# Altium integrated library ZMDI Smart Power Management.IntLib: 9 symbols
Pins are listed as number, name and electrical type; pins without a type are passive.

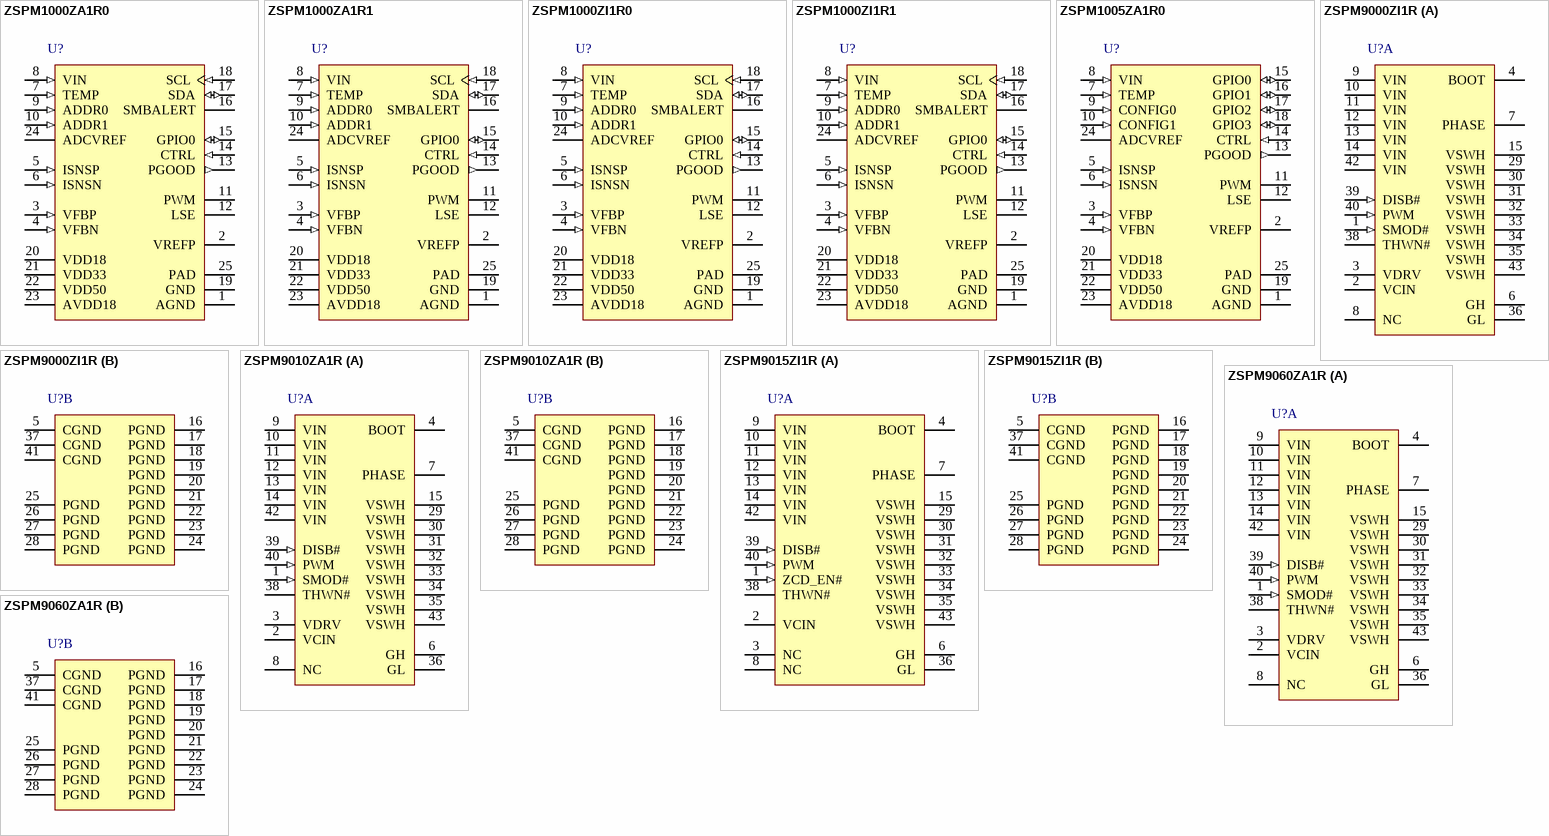
[diagram p0: symbols ZSPM1000ZA1R0 to ZSPM9060ZA1R]

## ZSPM1000ZA1R0
designator U?
True Digital PWM Controller (Single-Phase, Single-Rail), -40 to 125 degC, 24-Pin QFN, Reel, RoHS; Manufacturer: ZMDI; PartNumber: ZSPM1000ZA1R0; Output Current: 2 mA; Output Voltage Slew Rate: 0.15 V/us; DatasheetVersion: Rev. 1.41; PackageReference: QFN24; PackageDescription: 24-Pin Plastic Quad Flatpack, No Leads, 4 x 4 mm Body, 0.5 mm Pitch, 2.6 x 2.6 mm Exposed Pad; Package: QFN24; Packing: Reel; RoHS: TRUE; Mounting Technology: Surface Mount; Code_JEDEC: MO-220; ComponentLink1Description: Manufacturer URL; ComponentLink1URL: http://www.zmdi.com/; ComponentLink2Description: Datasheet; ComponentLink2URL: http://www.zmdi.com/sites/default/files/ZSPM1000_Brief_Data_Sheet_rev_1_41_2013-04-24.pdf; ComponentLink3Description: Package Specification; ComponentLink3URL: http://www.zmdi.com/sites/default/files/ZIOL2xxx-Data_Sheet_Rev2.2.1_0.pdf
footprint ZMDI-QFN24_N (QFN, 24-Leads, Body 4.1x4.1mm, Pitch 0.5mm, Thermal Pad 2.6x2.6mm, IPC Medium Density)
footprint ZMDI-QFN24_L (QFN, 24-Leads, Body 4.1x4.1mm, Pitch 0.5mm, Thermal Pad 2.6x2.6mm, IPC High Density)
footprint ZMDI-QFN24_M (QFN, 24-Leads, Body 4.1x4.1mm, Pitch 0.5mm, Thermal Pad 2.6x2.6mm, IPC Low Density)
pins: 1 AGND (power) "Analog Ground", 2 VREFP "Reference Terminal", 3 VFBP (in) "Positive Input of Differential Feedback Voltage Sensing", 4 VFBN (in) "Negative Input of Differential Feedback Voltage Sensing", 5 ISNSP (in) "Positive Input of Differential Current Sensing", 6 ISNSN (in) "Negative Input of Differential Current Sensing", 7 TEMP (in) "Connection to External Temperature Sensing Element", 8 VIN (in) "Power Supply Input Voltage Sensing", 9 ADDR0 (in) "SMBus Address Selection 0", 10 ADDR1 (in) "SMBus Address Selection 1", 11 PWM (hiz) "High-side FET Control Signal", 12 LSE (hiz) "Low-side FET Control Signal", 13 PGOOD (out) "PGOOD Output (Internal Pull-Down)", 14 CTRL (in) "Control Input", 15 GPIO0 (io) "General Purpose Input/Output Pin", 16 SMBALERT (oc) "SMBus Alert Output", 17 SDA (io) "SMBus Shift Data I/O", 18 SCL (in) "SMBus Shift Clock Input (Slave-only)", 19 GND (power) "Digital Ground", 20 VDD18 (power) "Internal 1.8 V Digital Supply Terminal", 21 VDD33 (power) "3.3 V Supply Voltage Terminal", 22 VDD50 (power) "5.0 V Supply Voltage Terminal", 23 AVDD18 (power) "Internal 1.8 V Analog Supply Terminal", 24 ADCVREF "Analog-to-Digital Converter (ADC) Reference Terminal", 25 PAD (power) "Exposed PAD, Digital Ground"

## ZSPM1000ZA1R1
designator U?
True Digital PWM Controller (Single-Phase, Single-Rail), -40 to 125 degC, 24-Pin QFN, Reel, RoHS; Manufacturer: ZMDI; PartNumber: ZSPM1000ZA1R1; Output Current: 2 mA; Output Voltage Slew Rate: 0.15 V/us; DatasheetVersion: Rev. 1.41; PackageReference: QFN24; PackageDescription: 24-Pin Plastic Quad Flatpack, No Leads, 4 x 4 mm Body, 0.5 mm Pitch, 2.6 x 2.6 mm Exposed Pad; Package: QFN24; Packing: Reel; RoHS: TRUE; Mounting Technology: Surface Mount; Code_JEDEC: MO-220; ComponentLink1Description: Manufacturer URL; ComponentLink1URL: http://www.zmdi.com/; ComponentLink2Description: Datasheet; ComponentLink2URL: http://www.zmdi.com/sites/default/files/ZSPM1000_Brief_Data_Sheet_rev_1_41_2013-04-24.pdf; ComponentLink3Description: Package Specification; ComponentLink3URL: http://www.zmdi.com/sites/default/files/ZIOL2xxx-Data_Sheet_Rev2.2.1_0.pdf
footprint ZMDI-QFN24_N (QFN, 24-Leads, Body 4.1x4.1mm, Pitch 0.5mm, Thermal Pad 2.6x2.6mm, IPC Medium Density)
footprint ZMDI-QFN24_L (QFN, 24-Leads, Body 4.1x4.1mm, Pitch 0.5mm, Thermal Pad 2.6x2.6mm, IPC High Density)
footprint ZMDI-QFN24_M (QFN, 24-Leads, Body 4.1x4.1mm, Pitch 0.5mm, Thermal Pad 2.6x2.6mm, IPC Low Density)
pins: 1 AGND (power) "Analog Ground", 2 VREFP "Reference Terminal", 3 VFBP (in) "Positive Input of Differential Feedback Voltage Sensing", 4 VFBN (in) "Negative Input of Differential Feedback Voltage Sensing", 5 ISNSP (in) "Positive Input of Differential Current Sensing", 6 ISNSN (in) "Negative Input of Differential Current Sensing", 7 TEMP (in) "Connection to External Temperature Sensing Element", 8 VIN (in) "Power Supply Input Voltage Sensing", 9 ADDR0 (in) "SMBus Address Selection 0", 10 ADDR1 (in) "SMBus Address Selection 1", 11 PWM (hiz) "High-side FET Control Signal", 12 LSE (hiz) "Low-side FET Control Signal", 13 PGOOD (out) "PGOOD Output (Internal Pull-Down)", 14 CTRL (in) "Control Input", 15 GPIO0 (io) "General Purpose Input/Output Pin", 16 SMBALERT (oc) "SMBus Alert Output", 17 SDA (io) "SMBus Shift Data I/O", 18 SCL (in) "SMBus Shift Clock Input (Slave-only)", 19 GND (power) "Digital Ground", 20 VDD18 (power) "Internal 1.8 V Digital Supply Terminal", 21 VDD33 (power) "3.3 V Supply Voltage Terminal", 22 VDD50 (power) "5.0 V Supply Voltage Terminal", 23 AVDD18 (power) "Internal 1.8 V Analog Supply Terminal", 24 ADCVREF "Analog-to-Digital Converter (ADC) Reference Terminal", 25 PAD (power) "Exposed PAD, Digital Ground"

## ZSPM1000ZI1R0
designator U?
True Digital PWM Controller (Single-Phase, Single-Rail), -40 to 85 degC, 24-Pin QFN, Reel, RoHS; Manufacturer: ZMDI; PartNumber: ZSPM1000ZI1R0; Output Current: 2 mA; Output Voltage Slew Rate: 0.15 V/us; DatasheetVersion: Rev. 1.41; PackageReference: QFN24; PackageDescription: 24-Pin Plastic Quad Flatpack, No Leads, 4 x 4 mm Body, 0.5 mm Pitch, 2.6 x 2.6 mm Exposed Pad; Package: QFN24; Packing: Reel; RoHS: TRUE; Mounting Technology: Surface Mount; Code_JEDEC: MO-220; ComponentLink1Description: Manufacturer URL; ComponentLink1URL: http://www.zmdi.com/; ComponentLink2Description: Datasheet; ComponentLink2URL: http://www.zmdi.com/sites/default/files/ZSPM1000_Brief_Data_Sheet_rev_1_41_2013-04-24.pdf; ComponentLink3Description: Package Specification; ComponentLink3URL: http://www.zmdi.com/sites/default/files/ZIOL2xxx-Data_Sheet_Rev2.2.1_0.pdf
footprint ZMDI-QFN24_N (QFN, 24-Leads, Body 4.1x4.1mm, Pitch 0.5mm, Thermal Pad 2.6x2.6mm, IPC Medium Density)
footprint ZMDI-QFN24_L (QFN, 24-Leads, Body 4.1x4.1mm, Pitch 0.5mm, Thermal Pad 2.6x2.6mm, IPC High Density)
footprint ZMDI-QFN24_M (QFN, 24-Leads, Body 4.1x4.1mm, Pitch 0.5mm, Thermal Pad 2.6x2.6mm, IPC Low Density)
pins: 1 AGND (power) "Analog Ground", 2 VREFP "Reference Terminal", 3 VFBP (in) "Positive Input of Differential Feedback Voltage Sensing", 4 VFBN (in) "Negative Input of Differential Feedback Voltage Sensing", 5 ISNSP (in) "Positive Input of Differential Current Sensing", 6 ISNSN (in) "Negative Input of Differential Current Sensing", 7 TEMP (in) "Connection to External Temperature Sensing Element", 8 VIN (in) "Power Supply Input Voltage Sensing", 9 ADDR0 (in) "SMBus Address Selection 0", 10 ADDR1 (in) "SMBus Address Selection 1", 11 PWM (hiz) "High-side FET Control Signal", 12 LSE (hiz) "Low-side FET Control Signal", 13 PGOOD (out) "PGOOD Output (Internal Pull-Down)", 14 CTRL (in) "Control Input", 15 GPIO0 (io) "General Purpose Input/Output Pin", 16 SMBALERT (oc) "SMBus Alert Output", 17 SDA (io) "SMBus Shift Data I/O", 18 SCL (in) "SMBus Shift Clock Input (Slave-only)", 19 GND (power) "Digital Ground", 20 VDD18 (power) "Internal 1.8 V Digital Supply Terminal", 21 VDD33 (power) "3.3 V Supply Voltage Terminal", 22 VDD50 (power) "5.0 V Supply Voltage Terminal", 23 AVDD18 (power) "Internal 1.8 V Analog Supply Terminal", 24 ADCVREF "Analog-to-Digital Converter (ADC) Reference Terminal", 25 PAD (power) "Exposed PAD, Digital Ground"

## ZSPM1000ZI1R1
designator U?
True Digital PWM Controller (Single-Phase, Single-Rail), -40 to 85 degC, 24-Pin QFN, Reel, RoHS; Manufacturer: ZMDI; PartNumber: ZSPM1000ZI1R1; Output Current: 2 mA; Output Voltage Slew Rate: 0.15 V/us; DatasheetVersion: Rev. 1.41; PackageReference: QFN24; PackageDescription: 24-Pin Plastic Quad Flatpack, No Leads, 4 x 4 mm Body, 0.5 mm Pitch, 2.6 x 2.6 mm Exposed Pad; Package: QFN24; Packing: Reel; RoHS: TRUE; Mounting Technology: Surface Mount; Code_JEDEC: MO-220; ComponentLink1Description: Manufacturer URL; ComponentLink1URL: http://www.zmdi.com/; ComponentLink2Description: Datasheet; ComponentLink2URL: http://www.zmdi.com/sites/default/files/ZSPM1000_Brief_Data_Sheet_rev_1_41_2013-04-24.pdf; ComponentLink3Description: Package Specification; ComponentLink3URL: http://www.zmdi.com/sites/default/files/ZIOL2xxx-Data_Sheet_Rev2.2.1_0.pdf
footprint ZMDI-QFN24_N (QFN, 24-Leads, Body 4.1x4.1mm, Pitch 0.5mm, Thermal Pad 2.6x2.6mm, IPC Medium Density)
footprint ZMDI-QFN24_L (QFN, 24-Leads, Body 4.1x4.1mm, Pitch 0.5mm, Thermal Pad 2.6x2.6mm, IPC High Density)
footprint ZMDI-QFN24_M (QFN, 24-Leads, Body 4.1x4.1mm, Pitch 0.5mm, Thermal Pad 2.6x2.6mm, IPC Low Density)
pins: 1 AGND (power) "Analog Ground", 2 VREFP "Reference Terminal", 3 VFBP (in) "Positive Input of Differential Feedback Voltage Sensing", 4 VFBN (in) "Negative Input of Differential Feedback Voltage Sensing", 5 ISNSP (in) "Positive Input of Differential Current Sensing", 6 ISNSN (in) "Negative Input of Differential Current Sensing", 7 TEMP (in) "Connection to External Temperature Sensing Element", 8 VIN (in) "Power Supply Input Voltage Sensing", 9 ADDR0 (in) "SMBus Address Selection 0", 10 ADDR1 (in) "SMBus Address Selection 1", 11 PWM (hiz) "High-side FET Control Signal", 12 LSE (hiz) "Low-side FET Control Signal", 13 PGOOD (out) "PGOOD Output (Internal Pull-Down)", 14 CTRL (in) "Control Input", 15 GPIO0 (io) "General Purpose Input/Output Pin", 16 SMBALERT (oc) "SMBus Alert Output", 17 SDA (io) "SMBus Shift Data I/O", 18 SCL (in) "SMBus Shift Clock Input (Slave-only)", 19 GND (power) "Digital Ground", 20 VDD18 (power) "Internal 1.8 V Digital Supply Terminal", 21 VDD33 (power) "3.3 V Supply Voltage Terminal", 22 VDD50 (power) "5.0 V Supply Voltage Terminal", 23 AVDD18 (power) "Internal 1.8 V Analog Supply Terminal", 24 ADCVREF "Analog-to-Digital Converter (ADC) Reference Terminal", 25 PAD (power) "Exposed PAD, Digital Ground"

## ZSPM1005ZA1R0
designator U?
True Digital PWM Controller (Single-Phase, Single-Rail), -40 to 125 degC, 24-Pin QFN, Reel, RoHS; Manufacturer: ZMDI; PartNumber: ZSPM1005ZA1R0; Output Current: 2 mA; Output Voltage Slew Rate: 0.15 V/us; DatasheetVersion: Rev. 1.00; PackageReference: QFN24; PackageDescription: 24-Pin Plastic Quad Flatpack, No Leads, 4 x 4 mm Body, 0.5 mm Pitch, 2.6 x 2.6 mm Exposed Pad; Supplier 1: Mouser; Supplier Part Number 1: 964-ZSPM1005ZA1R0; Package: QFN24; Packing: Reel; RoHS: TRUE; Mounting Technology: Surface Mount; Code_JEDEC: MO-220; ComponentLink1Description: Manufacturer URL; ComponentLink1URL: http://www.zmdi.com/; ComponentLink2Description: Datasheet; ComponentLink2URL: http://zmdi.cdistore.com/datasheets/zmdi/ZSPM1005_Brief_Data_Sheet_rev_1_00_2013-06-21.pdf; ComponentLink3Description: Package Specification; ComponentLink3URL: http://www.zmdi.com/sites/default/files/ZIOL2xxx-Data_Sheet_Rev2.2.1_0.pdf
footprint ZMDI-QFN24_N (QFN, 24-Leads, Body 4.1x4.1mm, Pitch 0.5mm, Thermal Pad 2.6x2.6mm, IPC Medium Density)
footprint ZMDI-QFN24_L (QFN, 24-Leads, Body 4.1x4.1mm, Pitch 0.5mm, Thermal Pad 2.6x2.6mm, IPC High Density)
footprint ZMDI-QFN24_M (QFN, 24-Leads, Body 4.1x4.1mm, Pitch 0.5mm, Thermal Pad 2.6x2.6mm, IPC Low Density)
pins: 1 AGND (power) "Analog Ground", 2 VREFP "Reference Terminal", 3 VFBP (in) "Positive Input of Differential Feedback Voltage Sensing", 4 VFBN (in) "Negative Input of Differential Feedback Voltage Sensing", 5 ISNSP (in) "Positive Input of Differential Current Sensing", 6 ISNSN (in) "Negative Input of Differential Current Sensing", 7 TEMP (in) "Connection to External Temperature Sensing Element", 8 VIN (in) "Power Supply Input Voltage Sensing", 9 CONFIG0 (in) "Configuration selection 0", 10 CONFIG1 (in) "Configuration selection 1", 11 PWM (hiz) "High-side FET Control Signal", 12 LSE (hiz) "Low-side FET Control Signal", 13 PGOOD (out) "PGOOD Output (Internal Pull-Down)", 14 CTRL (in) "Control Input", 15 GPIO0 (io) "General Purpose Input/Output Pin", 16 GPIO1 (io) "General Purpose Input/Output Pin", 17 GPIO2 (io) "General Purpose Input/Output Pin", 18 GPIO3 (io) "General Purpose Input/Output Pin", 19 GND (power) "Digital Ground", 20 VDD18 (power) "Internal 1.8 V Digital Supply Terminal", 21 VDD33 (power) "3.3 V Supply Voltage Terminal", 22 VDD50 (power) "5.0 V Supply Voltage Terminal", 23 AVDD18 (power) "Internal 1.8 V Analog Supply Terminal", 24 ADCVREF "Analog-to-Digital Converter (ADC) Reference Terminal", 25 PAD (power) "Exposed PAD, Digital Ground"

## ZSPM9000ZI1R
designator U?
Ultra-Compact, High-Performance DrMOS Device, -40 to 125 degC, 40-Pin PQFN, Reel, RoHS; Manufacturer: ZMDI; PartNumber: ZSPM9000ZI1R; DatasheetVersion: Rev. 1.03; PackageReference: PQFN40; PackageDescription: 40-Pin Plastic Quad Flatpack, No Leads, 6 x 6 mm Body, 0.5 mm Pitch; Package: PQFN40; Packing: Reel; RoHS: TRUE; Mounting Technology: Surface Mount; ComponentLink1Description: Manufacturer URL; ComponentLink1URL: http://www.zmdi.com/; ComponentLink2Description: Datasheet; ComponentLink2URL: http://zmdi.com/sites/default/files/ZSPM9000_Data_Sheet_rev1_03_2013-03-08.pdf; ComponentLink3Description: Package Specification; ComponentLink3URL: http://zmdi.com/sites/default/files/ZSPM9000_Data_Sheet_rev1_03_2013-03-08.pdf
footprint ZMDI-PQFN40_V (PQFN, 40-Leads, Body 6x6mm, Pitch 0.5mm)
part A pins: 1 SMOD# (in) "When SMOD#=HIGH, the low-side driver is the inverse of PWM input. When SMOD#=LOW, the low-side driver is disabled. This pin has a 10uA internal pull-up current source. Do not add a noise filter capacitor.", 2 VCIN (power), 3 VDRV (power), 4 BOOT "Bootstrap supply input. Provides voltage supply to the high-side MOSFET driver. Connect a bootstrap capacitor from this pin to PHASE.", 6 GH "Gate high. For manufacturing test only. This pin must float: it must not be connected.", 7 PHASE "Switch node pin for bootstrap capacitor routing; electrically shorted to VSWH pin.", 8 NC "No connection. The pin is not electrically connected internally but can be connected to VIN for convenience.", 9 VIN (power) "Input power voltage (output stage supply voltage).", 10 VIN (power) "Input power voltage (output stage supply voltage).", 11 VIN (power) "Input power voltage (output stage supply voltage).", 12 VIN (power) "Input power voltage (output stage supply voltage).", 13 VIN (power) "Input power voltage (output stage supply voltage).", 14 VIN (power) "Input power voltage (output stage supply voltage).", 15 VSWH (power) "Switch node. Provides return for high-side bootstrapped driver and acts as a sense point for the adaptive shoot-through protection.", 29 VSWH (power) "Switch node. Provides return for high-side bootstrapped driver and acts as a sense point for the adaptive shoot-through protection.", 30 VSWH (power) "Switch node. Provides return for high-side bootstrapped driver and acts as a sense point for the adaptive shoot-through protection.", 31 VSWH (power) "Switch node. Provides return for high-side bootstrapped driver and acts as a sense point for the adaptive shoot-through protection.", 32 VSWH (power) "Switch node. Provides return for high-side bootstrapped driver and acts as a sense point for the adaptive shoot-through protection.", 33 VSWH (power) "Switch node. Provides return for high-side bootstrapped driver and acts as a sense point for the adaptive shoot-through protection.", 34 VSWH (power) "Switch node. Provides return for high-side bootstrapped driver and acts as a sense point for the adaptive shoot-through protection.", 35 VSWH (power) "Switch node. Provides return for high-side bootstrapped driver and acts as a sense point for the adaptive shoot-through protection.", 36 GL "Gate low. For manufacturing test only. This pin must float. It must not be connected.", 38 THWN# (hiz) "Thermal warning flag, open collector output. When temperature exceeds the trip limit, the output is pulled LOW. THWN# does not disable the module.", 39 DISB# (in), 40 PWM (in) "PWM signal input. This pin accepts a tri-state 3.3V PWM signal from the controller.", 42 VIN (power) "Input power voltage (output stage supply voltage).", 43 VSWH (power) "Switch node. Provides return for high-side bootstrapped driver and acts as a sense point for the adaptive shoot-through protection."
part B pins: 5 CGND (power), 16 PGND (power) "Power ground (output stage ground). Source pin of the low-side MOSFET.", 17 PGND (power) "Power ground (output stage ground). Source pin of the low-side MOSFET.", 18 PGND (power) "Power ground (output stage ground). Source pin of the low-side MOSFET.", 19 PGND (power) "Power ground (output stage ground). Source pin of the low-side MOSFET.", 20 PGND (power) "Power ground (output stage ground). Source pin of the low-side MOSFET.", 21 PGND (power) "Power ground (output stage ground). Source pin of the low-side MOSFET.", 22 PGND (power) "Power ground (output stage ground). Source pin of the low-side MOSFET.", 23 PGND (power) "Power ground (output stage ground). Source pin of the low-side MOSFET.", 24 PGND (power) "Power ground (output stage ground). Source pin of the low-side MOSFET.", 25 PGND (power) "Power ground (output stage ground). Source pin of the low-side MOSFET.", 26 PGND (power) "Power ground (output stage ground). Source pin of the low-side MOSFET.", 27 PGND (power) "Power ground (output stage ground). Source pin of the low-side MOSFET.", 28 PGND (power) "Power ground (output stage ground). Source pin of the low-side MOSFET.", 37 CGND (power), 41 CGND (power)

## ZSPM9010ZA1R
designator U?
Ultra-Compact, High-Performance DrMOS Device, -40 to 125 degC, 40-Pin PQFN, Reel, RoHS; Manufacturer: ZMDI; PartNumber: ZSPM9010ZA1R; DatasheetVersion: Rev. 1.04; PackageReference: PQFN40; PackageDescription: 40-Pin Plastic Quad Flatpack, No Leads, 6 x 6 mm Body, 0.5 mm Pitch; Supplier 1: Farnell; Supplier Part Number 1: 2115225; Supplier 2: Newark; Supplier Part Number 2: 05W5935; Supplier 3: Mouser; Supplier Part Number 3: 964-ZSPM9010ZA1R; Package: PQFN40; Packing: Reel; RoHS: TRUE; Mounting Technology: Surface Mount; ComponentLink1Description: Manufacturer URL; ComponentLink1URL: http://www.zmdi.com/; ComponentLink2Description: Datasheet; ComponentLink2URL: http://zmdi.cdistore.com/datasheets/zmdi/ZSPM9010-Data_Sheet_rev_1_04_2013-03-08.pdf; ComponentLink3Description: Package Specification; ComponentLink3URL: http://zmdi.com/sites/default/files/ZSPM9000_Data_Sheet_rev1_03_2013-03-08.pdf
footprint ZMDI-PQFN40_V (PQFN, 40-Leads, Body 6x6mm, Pitch 0.5mm)
part A pins: 1 SMOD# (in) "When SMOD#=HIGH, the low-side driver is the inverse of PWM input. When SMOD#=LOW, the low-side driver is disabled. This pin has a 10uA internal pull-up current source. Do not add a noise filter capacitor.", 2 VCIN (power), 3 VDRV (power), 4 BOOT "Bootstrap supply input. Provides voltage supply to the high-side MOSFET driver. Connect a bootstrap capacitor from this pin to PHASE.", 6 GH "Gate high. For manufacturing test only. This pin must float: it must not be connected.", 7 PHASE "Switch node pin for bootstrap capacitor routing; electrically shorted to VSWH pin.", 8 NC "No connection. The pin is not electrically connected internally but can be connected to VIN for convenience.", 9 VIN (power) "Input power voltage (output stage supply voltage).", 10 VIN (power) "Input power voltage (output stage supply voltage).", 11 VIN (power) "Input power voltage (output stage supply voltage).", 12 VIN (power) "Input power voltage (output stage supply voltage).", 13 VIN (power) "Input power voltage (output stage supply voltage).", 14 VIN (power) "Input power voltage (output stage supply voltage).", 15 VSWH (power) "Switch node. Provides return for high-side bootstrapped driver and acts as a sense point for the adaptive shoot-through protection.", 29 VSWH (power) "Switch node. Provides return for high-side bootstrapped driver and acts as a sense point for the adaptive shoot-through protection.", 30 VSWH (power) "Switch node. Provides return for high-side bootstrapped driver and acts as a sense point for the adaptive shoot-through protection.", 31 VSWH (power) "Switch node. Provides return for high-side bootstrapped driver and acts as a sense point for the adaptive shoot-through protection.", 32 VSWH (power) "Switch node. Provides return for high-side bootstrapped driver and acts as a sense point for the adaptive shoot-through protection.", 33 VSWH (power) "Switch node. Provides return for high-side bootstrapped driver and acts as a sense point for the adaptive shoot-through protection.", 34 VSWH (power) "Switch node. Provides return for high-side bootstrapped driver and acts as a sense point for the adaptive shoot-through protection.", 35 VSWH (power) "Switch node. Provides return for high-side bootstrapped driver and acts as a sense point for the adaptive shoot-through protection.", 36 GL "Gate low. For manufacturing test only. This pin must float. It must not be connected.", 38 THWN# (hiz) "Thermal warning flag, open collector output. When temperature exceeds the trip limit, the output is pulled LOW. THWN# does not disable the module.", 39 DISB# (in), 40 PWM (in) "PWM signal input. This pin accepts a tri-state 3.3V PWM signal from the controller.", 42 VIN (power) "Input power voltage (output stage supply voltage).", 43 VSWH (power) "Switch node. Provides return for high-side bootstrapped driver and acts as a sense point for the adaptive shoot-through protection."
part B pins: 5 CGND (power), 16 PGND (power) "Power ground (output stage ground). Source pin of the low-side MOSFET.", 17 PGND (power) "Power ground (output stage ground). Source pin of the low-side MOSFET.", 18 PGND (power) "Power ground (output stage ground). Source pin of the low-side MOSFET.", 19 PGND (power) "Power ground (output stage ground). Source pin of the low-side MOSFET.", 20 PGND (power) "Power ground (output stage ground). Source pin of the low-side MOSFET.", 21 PGND (power) "Power ground (output stage ground). Source pin of the low-side MOSFET.", 22 PGND (power) "Power ground (output stage ground). Source pin of the low-side MOSFET.", 23 PGND (power) "Power ground (output stage ground). Source pin of the low-side MOSFET.", 24 PGND (power) "Power ground (output stage ground). Source pin of the low-side MOSFET.", 25 PGND (power) "Power ground (output stage ground). Source pin of the low-side MOSFET.", 26 PGND (power) "Power ground (output stage ground). Source pin of the low-side MOSFET.", 27 PGND (power) "Power ground (output stage ground). Source pin of the low-side MOSFET.", 28 PGND (power) "Power ground (output stage ground). Source pin of the low-side MOSFET.", 37 CGND (power), 41 CGND (power)

## ZSPM9015ZI1R
designator U?
Ultra-Compact, High-Performance, High-Frequency DrMOS Device, 0 to 150 degC, 40-Pin QFN, Reel, RoHS; Manufacturer: ZMDI; PartNumber: ZSPM9015ZI1R; DatasheetVersion: Rev. 1.00; PackageReference: QFN40; PackageDescription: 40-Pin Plastic Quad Flatpack, No Leads, 6 x 6 mm Body, 0.5 mm Pitch; Supplier 1: Mouser; Supplier Part Number 1: 964-ZSPM9015ZI1R; Package: PQFN40; Packing: Reel; RoHS: TRUE; Mounting Technology: Surface Mount; ComponentLink1Description: Manufacturer URL; ComponentLink1URL: http://www.zmdi.com/; ComponentLink2Description: Datasheet; ComponentLink2URL: http://zmdi.cdistore.com/datasheets/zmdi/ZSPM9015_Data_Sheet_rev_1_00_2013-04-26.pdf; ComponentLink3Description: Package Specification; ComponentLink3URL: http://zmdi.cdistore.com/datasheets/zmdi/ZSPM9015_Data_Sheet_rev_1_00_2013-04-26.pdf
footprint ZMDI-QFN40_V (QFN, 40-Leads, Body 6x6mm, Pitch 0.5mm)
footprint ZMDI-QFN40_V (QFN, 40-Leads, Body 6x6mm, Pitch 0.5mm)
part A pins: 1 ZCD_EN# (in) "Enable Zero Current Detection Mode. Advisable not to leave floating.", 2 VCIN (power) "IC bias supply. A 1uF (minimum) ceramic capacitor is recommended from this pin to CGND.", 3 NC "No connection.", 4 BOOT "Bootstrap supply input. Provides voltage supply to the high-side MOSFET driver. Connect a bootstrap capacitor from this pin to PHASE.", 6 GH "Gate high. For manufacturing test only. This pin must float: it must not be connected.", 7 PHASE "Switch node pin for bootstrap capacitor routing; electrically shorted to VSWH pin.", 8 NC "No connection.", 9 VIN (power) "Input power voltage (output stage supply voltage).", 10 VIN (power) "Input power voltage (output stage supply voltage).", 11 VIN (power) "Input power voltage (output stage supply voltage).", 12 VIN (power) "Input power voltage (output stage supply voltage).", 13 VIN (power) "Input power voltage (output stage supply voltage).", 14 VIN (power) "Input power voltage (output stage supply voltage).", 15 VSWH (power) "Switch node. Provides return for high-side bootstrapped driver and acts as a sense point for the adaptive shoot-through protection.", 29 VSWH (power) "Switch node. Provides return for high-side bootstrapped driver and acts as a sense point for the adaptive shoot-through protection.", 30 VSWH (power) "Switch node. Provides return for high-side bootstrapped driver and acts as a sense point for the adaptive shoot-through protection.", 31 VSWH (power) "Switch node. Provides return for high-side bootstrapped driver and acts as a sense point for the adaptive shoot-through protection.", 32 VSWH (power) "Switch node. Provides return for high-side bootstrapped driver and acts as a sense point for the adaptive shoot-through protection.", 33 VSWH (power) "Switch node. Provides return for high-side bootstrapped driver and acts as a sense point for the adaptive shoot-through protection.", 34 VSWH (power) "Switch node. Provides return for high-side bootstrapped driver and acts as a sense point for the adaptive shoot-through protection.", 35 VSWH (power) "Switch node. Provides return for high-side bootstrapped driver and acts as a sense point for the adaptive shoot-through protection.", 36 GL "Gate low. For manufacturing test only. This pin must float. It must not be connected.", 38 THWN# (hiz) "Thermal warning flag. When temperature exceeds the trip limit, the output is pulled LOW. This pin has a maximum current capability of 30mA.", 39 DISB# (in) "Output disable. When LOW, this pin disables the power MOSFET switching (GH and GL are held LOW). Advisable not to leave floating.", 40 PWM (in) "PWM signal input. This pin accepts a tri-state 3.3V or 5V PWM signal from the controller.", 42 VIN (power) "Input power voltage (output stage supply voltage).", 43 VSWH (power) "Switch node. Provides return for high-side bootstrapped driver and acts as a sense point for the adaptive shoot-through protection."
part B pins: 5 CGND (power) "IC ground. Ground return for ZSPM9015.", 16 PGND (power) "Power ground (output stage ground). Source pin of the low-side MOSFET.", 17 PGND (power) "Power ground (output stage ground). Source pin of the low-side MOSFET.", 18 PGND (power) "Power ground (output stage ground). Source pin of the low-side MOSFET.", 19 PGND (power) "Power ground (output stage ground). Source pin of the low-side MOSFET.", 20 PGND (power) "Power ground (output stage ground). Source pin of the low-side MOSFET.", 21 PGND (power) "Power ground (output stage ground). Source pin of the low-side MOSFET.", 22 PGND (power) "Power ground (output stage ground). Source pin of the low-side MOSFET.", 23 PGND (power) "Power ground (output stage ground). Source pin of the low-side MOSFET.", 24 PGND (power) "Power ground (output stage ground). Source pin of the low-side MOSFET.", 25 PGND (power) "Power ground (output stage ground). Source pin of the low-side MOSFET.", 26 PGND (power) "Power ground (output stage ground). Source pin of the low-side MOSFET.", 27 PGND (power) "Power ground (output stage ground). Source pin of the low-side MOSFET.", 28 PGND (power) "Power ground (output stage ground). Source pin of the low-side MOSFET.", 37 CGND (power) "IC ground. Ground return for ZSPM9015.", 41 CGND (power) "IC ground. Ground return for ZSPM9015."

## ZSPM9060ZA1R
designator U?
Ultra-Compact, High-Performance, High-Frequency DrMOS Device, -40 to 125 degC, 40-Pin PQFN, Reel, RoHS; Manufacturer: ZMDI; PartNumber: ZSPM9060ZA1R; DatasheetVersion: Rev. 1.01; PackageReference: PQFN40; PackageDescription: 40-Pin Plastic Quad Flatpack, No Leads, 6 x 6 mm Body, 0.5 mm Pitch; Supplier 1: Farnell; Supplier Part Number 1: 2322449; Supplier 2: Newark; Supplier Part Number 2: 95W3783; Supplier 3: Mouser; Supplier Part Number 3: 964-ZSPM9060ZA1R; Package: PQFN40; Packing: Reel; RoHS: TRUE; Mounting Technology: Surface Mount; ComponentLink1Description: Manufacturer URL; ComponentLink1URL: http://www.zmdi.com/; ComponentLink2Description: Datasheet; ComponentLink2URL: http://zmdi.cdistore.com/datasheets/zmdi/ZSPM9060_Data_Sheet_rev_1_01_2013-03-08.pdf; ComponentLink3Description: Package Specification; ComponentLink3URL: http://zmdi.com/sites/default/files/ZSPM9000_Data_Sheet_rev1_03_2013-03-08.pdf
footprint ZMDI-PQFN40_V (PQFN, 40-Leads, Body 6x6mm, Pitch 0.5mm)
part A pins: 1 SMOD# (in) "When SMOD#=HIGH, the low-side driver is the inverse of PWM input. When SMOD#=LOW, the low-side driver is disabled. This pin has a 10uA internal pull-up current source. Do not add a noise filter capacitor.", 2 VCIN (power), 3 VDRV (power), 4 BOOT "Bootstrap supply input. Provides voltage supply to the high-side MOSFET driver. Connect a bootstrap capacitor from this pin to PHASE.", 6 GH "Gate high. For manufacturing test only. This pin must float: it must not be connected.", 7 PHASE "Switch node pin for bootstrap capacitor routing; electrically shorted to VSWH pin.", 8 NC "No connection. The pin is not electrically connected internally but can be connected to VIN for convenience.", 9 VIN (power) "Input power voltage (output stage supply voltage).", 10 VIN (power) "Input power voltage (output stage supply voltage).", 11 VIN (power) "Input power voltage (output stage supply voltage).", 12 VIN (power) "Input power voltage (output stage supply voltage).", 13 VIN (power) "Input power voltage (output stage supply voltage).", 14 VIN (power) "Input power voltage (output stage supply voltage).", 15 VSWH (power) "Switch node. Provides return for high-side bootstrapped driver and acts as a sense point for the adaptive shoot-through protection.", 29 VSWH (power) "Switch node. Provides return for high-side bootstrapped driver and acts as a sense point for the adaptive shoot-through protection.", 30 VSWH (power) "Switch node. Provides return for high-side bootstrapped driver and acts as a sense point for the adaptive shoot-through protection.", 31 VSWH (power) "Switch node. Provides return for high-side bootstrapped driver and acts as a sense point for the adaptive shoot-through protection.", 32 VSWH (power) "Switch node. Provides return for high-side bootstrapped driver and acts as a sense point for the adaptive shoot-through protection.", 33 VSWH (power) "Switch node. Provides return for high-side bootstrapped driver and acts as a sense point for the adaptive shoot-through protection.", 34 VSWH (power) "Switch node. Provides return for high-side bootstrapped driver and acts as a sense point for the adaptive shoot-through protection.", 35 VSWH (power) "Switch node. Provides return for high-side bootstrapped driver and acts as a sense point for the adaptive shoot-through protection.", 36 GL "Gate low. For manufacturing test only. This pin must float. It must not be connected.", 38 THWN# (hiz) "Thermal warning flag, open collector output. When temperature exceeds the trip limit, the output is pulled LOW. THWN# does not disable the module.", 39 DISB# (in), 40 PWM (in) "PWM signal input. This pin accepts a tri-state 3.3V PWM signal from the controller.", 42 VIN (power) "Input power voltage (output stage supply voltage).", 43 VSWH (power) "Switch node. Provides return for high-side bootstrapped driver and acts as a sense point for the adaptive shoot-through protection."
part B pins: 5 CGND (power), 16 PGND (power) "Power ground (output stage ground). Source pin of the low-side MOSFET.", 17 PGND (power) "Power ground (output stage ground). Source pin of the low-side MOSFET.", 18 PGND (power) "Power ground (output stage ground). Source pin of the low-side MOSFET.", 19 PGND (power) "Power ground (output stage ground). Source pin of the low-side MOSFET.", 20 PGND (power) "Power ground (output stage ground). Source pin of the low-side MOSFET.", 21 PGND (power) "Power ground (output stage ground). Source pin of the low-side MOSFET.", 22 PGND (power) "Power ground (output stage ground). Source pin of the low-side MOSFET.", 23 PGND (power) "Power ground (output stage ground). Source pin of the low-side MOSFET.", 24 PGND (power) "Power ground (output stage ground). Source pin of the low-side MOSFET.", 25 PGND (power) "Power ground (output stage ground). Source pin of the low-side MOSFET.", 26 PGND (power) "Power ground (output stage ground). Source pin of the low-side MOSFET.", 27 PGND (power) "Power ground (output stage ground). Source pin of the low-side MOSFET.", 28 PGND (power) "Power ground (output stage ground). Source pin of the low-side MOSFET.", 37 CGND (power), 41 CGND (power)